# EAGLE library part ARDUINO_SHIELD_BIGLOG_2 (library awickert)
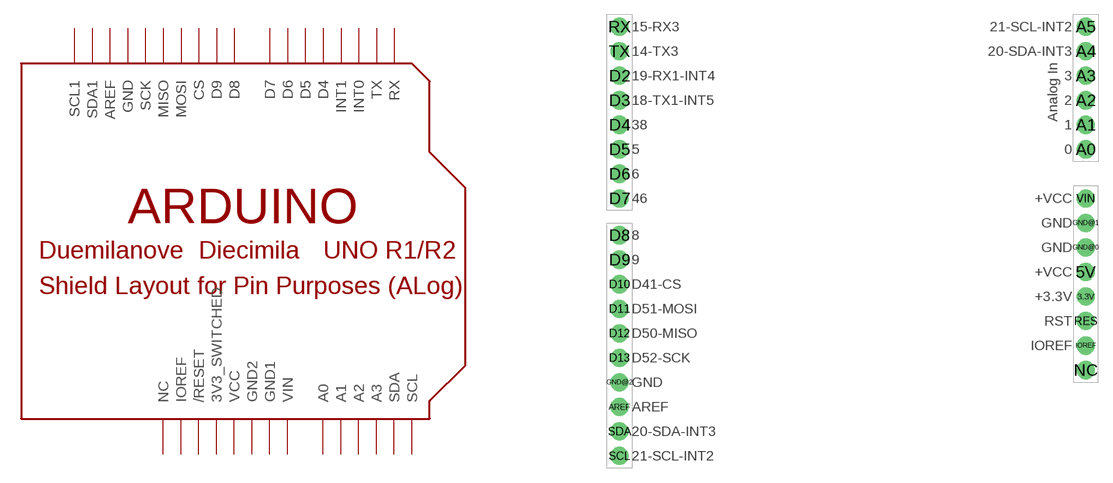
[diagram p6: symbol with the pads of ARDUINO_SHIELD_PO_BL2; footprint ARDUINO_SHIELD_PO_BL2]

Designator prefix -

## ARDUINO_SHIELD_BIGLOG_2  [ARDUINO_SHIELD_PO_BL2]
3.3V  3V3_SWITCHED  pwr
5V  VCC  pwr
A0  A0
A1  A1
A2  A2
A3  A3
A4  SDA
A5  SCL
AREF  AREF
D2  INT0
D3  INT1
D4  D4
D5  D5
D6  D6
D7  D7
D8  D8
D9  D9
D10  CS
D11  MOSI
D12  MISO
D13  SCK
GND@0  GND  pwr
GND@1  GND1  pwr
GND@2  GND2  pwr
IOREF  IOREF
NC  NC
RES  /RESET
RX  RX
SCL  SCL1
SDA  SDA1
TX  TX
VIN  VIN  pwr

## Footprint ARDUINO_SHIELD_PO_BL2 (pad centres in mm)
drill 1.016 pad 1.88: 3.3V 50.8,26.67; 5V 50.8,29.21; A0 50.8,41.91; A1 50.8,44.45; A2 50.8,46.99; A3 50.8,49.53; A4 50.8,52.07; A5 50.8,54.61; AREF 2.54,15.24; D2 2.54,49.53; D3 2.54,46.99; D4 2.54,44.45; D5 2.54,41.91; D6 2.54,39.37; D7 2.54,36.83; D8 2.54,33.02; D9 2.54,30.48; D10 2.54,27.94; D11 2.54,25.4; D12 2.54,22.86; D13 2.54,20.32; GND@0 50.8,31.75; GND@1 50.8,34.29; GND@2 2.54,17.78; IOREF 50.8,21.59; NC 50.8,19.05; RES 50.8,24.13; RX 2.54,54.61; SCL 2.54,10.16; SDA 2.54,12.7; TX 2.54,52.07; VIN 50.8,36.83